# Altium schematic symbol library stm32f373-relay-control.SchLib: 30 symbols
Pins are listed as number, name and electrical type; pins without a type are passive.

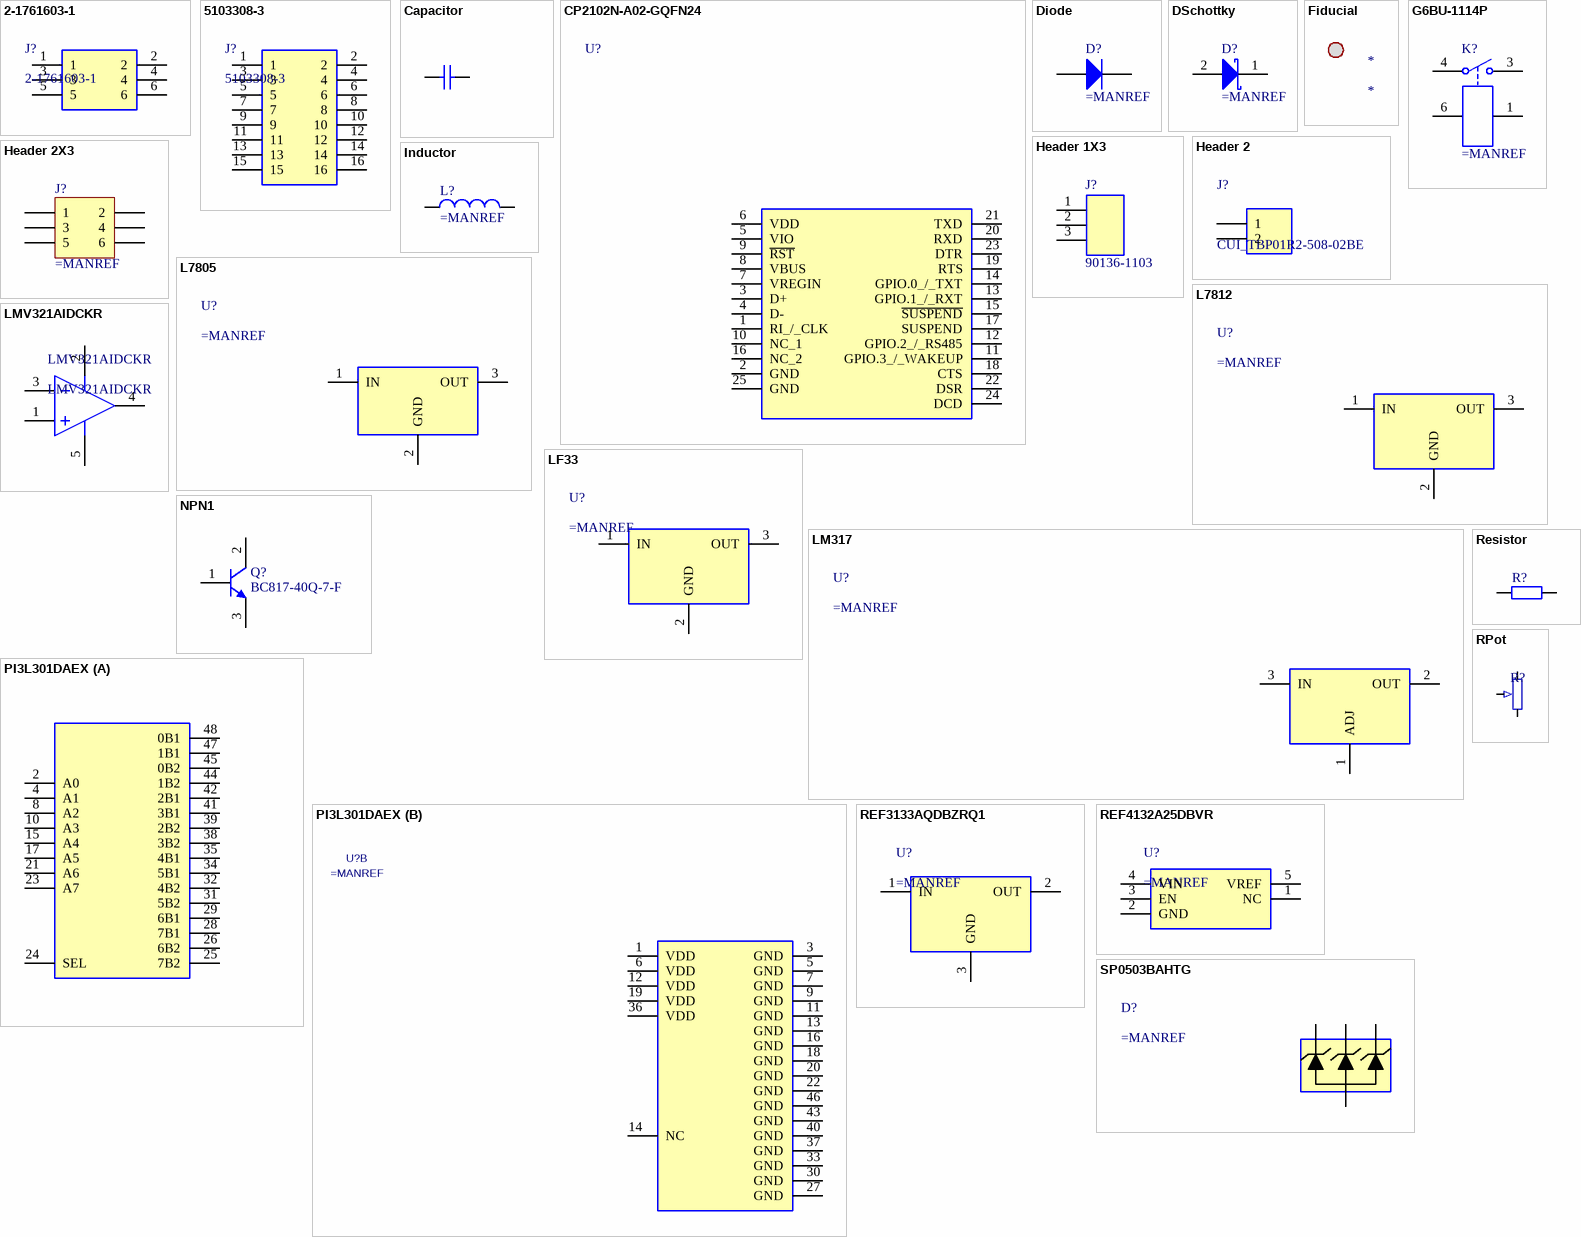
[diagram p0: symbols 2-1761603-1 to SP0503BAHTG]

## 2-1761603-1
designator J?
pins: 1, 2, 3, 4, 5, 6

## 5103308-3
designator J?
pins: 1, 2, 3, 4, 5, 6, 7, 8, 9, 10, 11, 12, 13, 14, 15, 16

## Capacitor
designator C?  (value not drawn)
pins: 1, 2

## CP2102N-A02-GQFN24
designator U?
pins: 1 RI_/_CLK, 2 GND, 3 D+, 4 D-, 5 VIO, 6 VDD, 7 VREGIN, 8 VBUS, 9 ~{RST}, 10 NC_1, 11 GPIO.3_/_WAKEUP, 12 GPIO.2_/_RS485, 13 GPIO.1_/_RXT, 14 GPIO.0_/_TXT, 15 ~{SUSPEND}, 16 NC_2, 17 SUSPEND, 18 CTS, 19 RTS, 20 RXD, 21 TXD, 22 DSR, 23 DTR, 24 DCD, 25 GND

## Diode
designator D?
pins: 1 K, 2 A

## DSchottky
designator D?
pins: 1 K, 2 A

## Fiducial
designator *

## G6BU-1114P
designator K?
pins: 1, 3, 4, 6

## Header 1X3
designator J?, comment 90136-1103
pins: 1, 2, 3

## Header 2
designator J?, comment CUI_TBP01R2-508-02BE
pins: 1, 2

## Header 2X3
designator J?
pins: 1, 2, 3, 4, 5, 6

## Inductor
designator L?
pins: 1, 2

## L7805
designator U?
pins: 1 IN, 2 GND, 3 OUT

## L7812
designator U?
pins: 1 IN, 2 GND, 3 OUT

## LF33
designator U?
pins: 1 IN, 2 GND, 3 OUT

## LM317
designator U?
pins: 1 ADJ, 2 OUT, 3 IN

## LMV321AIDCKR
designator LMV321AIDCKR
pins: 1 +IN, 2 -V (power), 3 -IN, 4 OUT, 5 +V (power)

## NPN1
designator Q?, comment BC817-40Q-7-F
pins: 1 B, 2 C, 3 E

## PI3L301DAEX
designator U?
part A pins: 2 A0, 4 A1, 8 A2, 10 A3, 15 A4, 17 A5, 21 A6, 23 A7, 24 SEL, 25 7B2, 26 6B2, 28 7B1, 29 6B1, 31 5B2, 32 4B2, 34 5B1, 35 4B1, 38 3B2, 39 2B2, 41 3B1, 42 2B1, 44 1B2, 45 0B2, 47 1B1, 48 0B1
part B pins: 1 VDD, 3 GND, 5 GND, 6 VDD, 7 GND, 9 GND, 11 GND, 12 VDD, 13 GND, 14 NC, 16 GND, 18 GND, 19 VDD, 20 GND, 22 GND, 27 GND, 30 GND, 33 GND, 36 VDD, 37 GND, 40 GND, 43 GND, 46 GND

## REF3133AQDBZRQ1
designator U?
pins: 1 IN, 2 OUT, 3 GND

## REF4132A25DBVR
designator U?
pins: 1 NC, 2 GND, 3 EN, 4 VIN, 5 VREF

## Resistor
designator R?  (value not drawn)
pins: 1, 2

## RPot
designator R?
pins: 1, 2, 3

## SP0503BAHTG
designator D?
pins: 1, 2, 3, 4

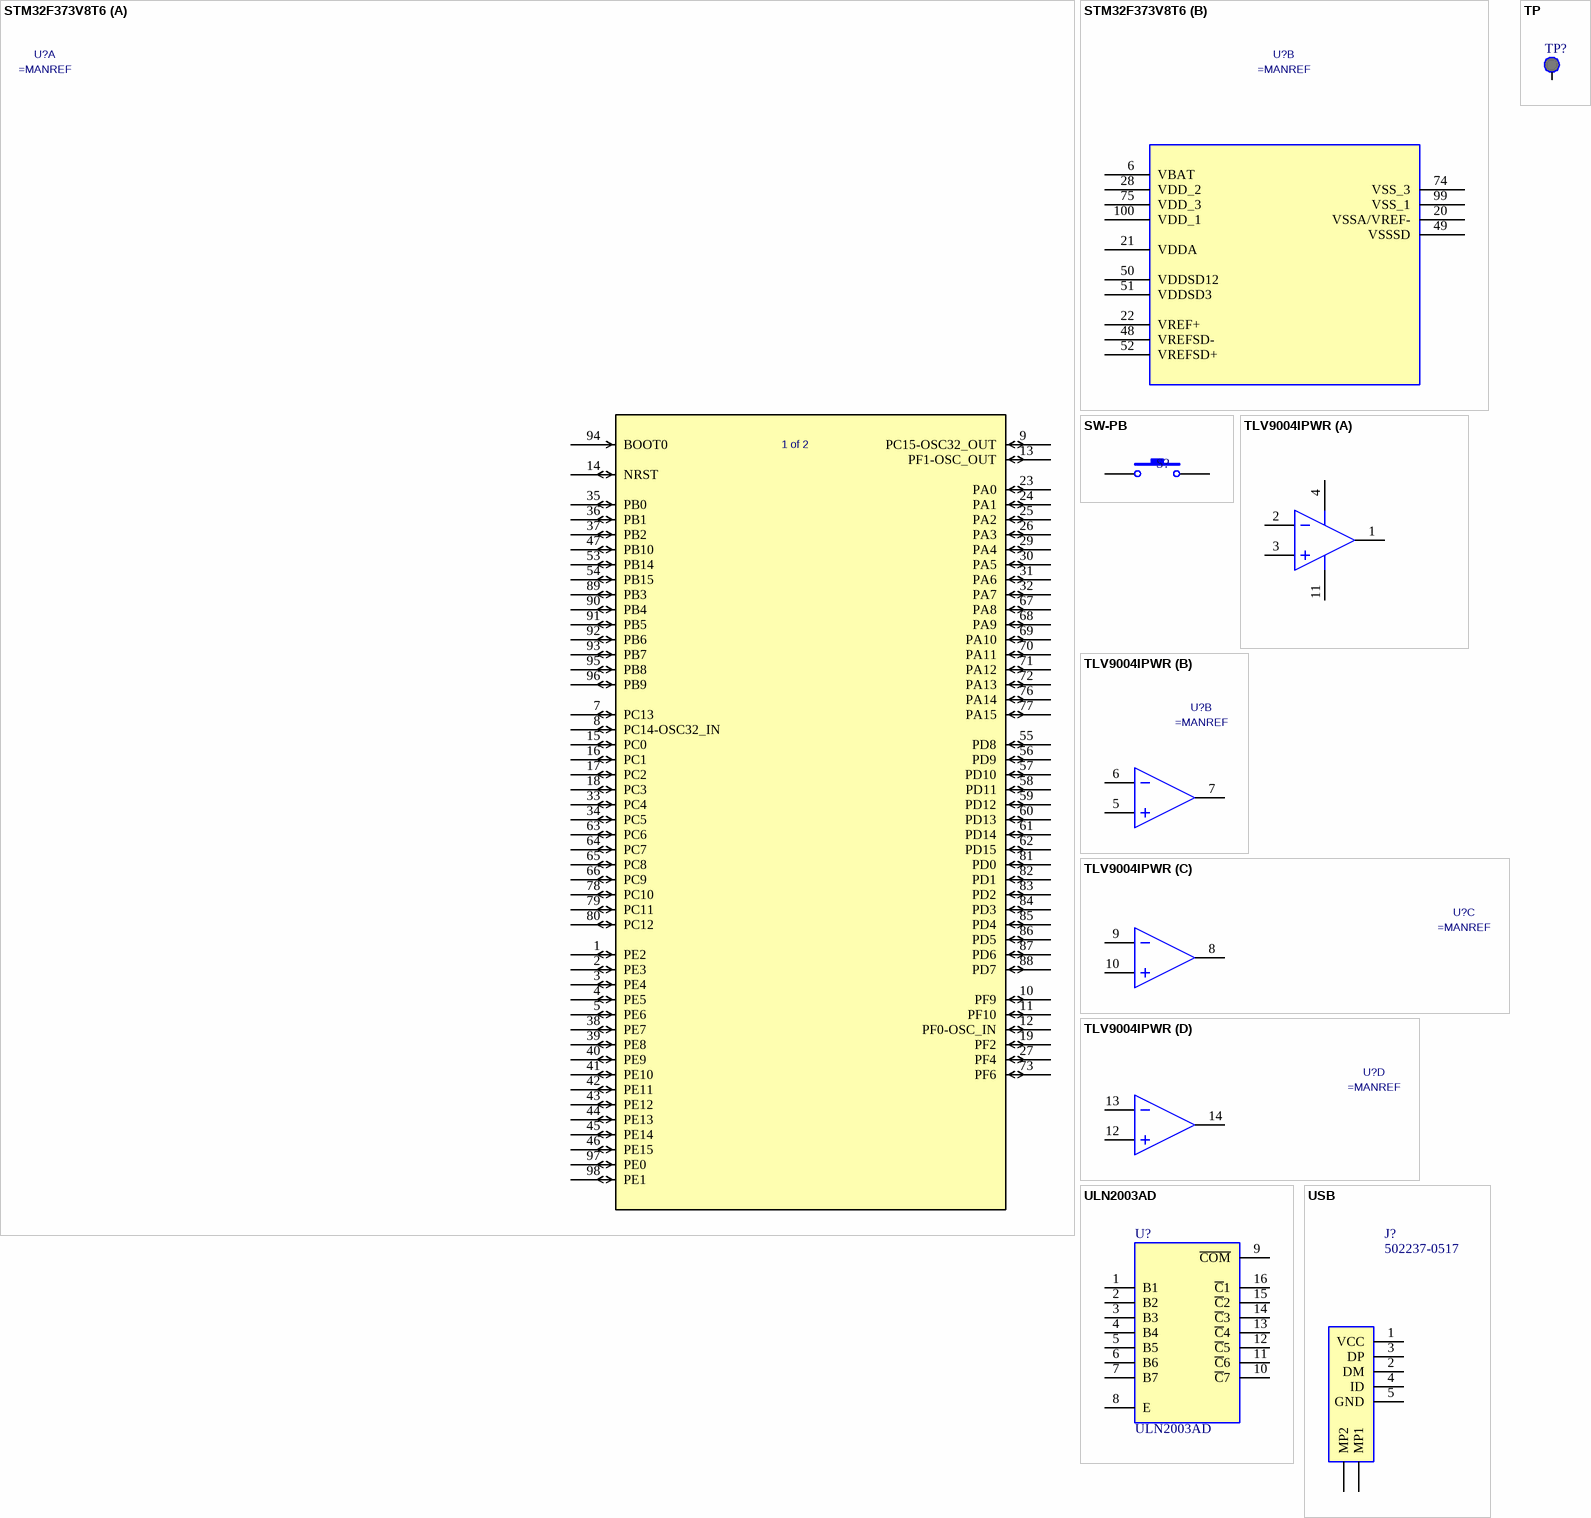
[diagram p1: symbols STM32F373V8T6 to USB]

## STM32F373V8T6
designator U?
part A pins: 1 PE2, 2 PE3, 3 PE4, 4 PE5, 5 PE6, 7 PC13, 8 PC14-OSC32_IN, 9 PC15-OSC32_OUT, 10 PF9, 11 PF10, 12 PF0-OSC_IN, 13 PF1-OSC_OUT, 14 NRST, 15 PC0, 16 PC1, 17 PC2, 18 PC3, 19 PF2, 23 PA0, 24 PA1, 25 PA2, 26 PA3, 27 PF4, 29 PA4, 30 PA5, 31 PA6, 32 PA7, 33 PC4, 34 PC5, 35 PB0, 36 PB1, 37 PB2, 38 PE7, 39 PE8, 40 PE9, 41 PE10, 42 PE11, 43 PE12, 44 PE13, 45 PE14, 46 PE15, 47 PB10, 53 PB14, 54 PB15, 55 PD8, 56 PD9, 57 PD10, 58 PD11, 59 PD12, 60 PD13, 61 PD14, 62 PD15, 63 PC6, 64 PC7, 65 PC8, 66 PC9, 67 PA8, 68 PA9, 69 PA10, 70 PA11, 71 PA12, 72 PA13, 73 PF6, 76 PA14, 77 PA15, 78 PC10, 79 PC11, 80 PC12, 81 PD0, 82 PD1, 83 PD2, 84 PD3, 85 PD4, 86 PD5, 87 PD6, 88 PD7, 89 PB3, 90 PB4, 91 PB5, 92 PB6, 93 PB7, 94 BOOT0, 95 PB8, 96 PB9, 97 PE0, 98 PE1
part B pins: 6 VBAT (power), 20 VSSA/VREF- (power), 21 VDDA (power), 22 VREF+ (power), 28 VDD_2 (power), 48 VREFSD- (power), 49 VSSSD (power), 50 VDDSD12 (power), 51 VDDSD3 (power), 52 VREFSD+ (power), 74 VSS_3 (power), 75 VDD_3 (power), 99 VSS_1 (power), 100 VDD_1 (power)
part A text: 1 of 2
part B text: 2 of 2

## SW-PB
designator S?
pins: 1, 2

## TLV9004IPWR
designator U?
part A pins: 1 OUT A, 2 -IN A, 3 +IN A, 4 +V, 11 -V
part B pins: 5 +IN B, 6 –IN B, 7 OUT B
part C pins: 8 OUT C, 9 –IN C, 10 +IN C
part D pins: 12 +IN D, 13 –IN D, 14 OUT D
2 alternate drawings of the same symbol

## TP
designator TP?, comment Test Point  (value not drawn)  (no BOM)
pins: 1

## ULN2003AD
designator U?
pins: 1 B1, 2 B2, 3 B3, 4 B4, 5 B5, 6 B6, 7 B7, 8 E (power), 9 ~{COM}, 10 ~{C}7 (oc), 11 ~{C}6 (oc), 12 ~{C}5 (oc), 13 ~{C}4 (oc), 14 ~{C}3 (oc), 15 ~{C}2 (oc), 16 ~{C}1 (oc)

## USB
designator J?, comment 502237-0517
pins: 1 VCC, 2 DM, 3 DP, 4 ID, 5 GND, MP1, MP2